# Altium integrated library passive-res-th.IntLib: 25 symbols
Pins are listed as number, name and electrical type; pins without a type are passive.

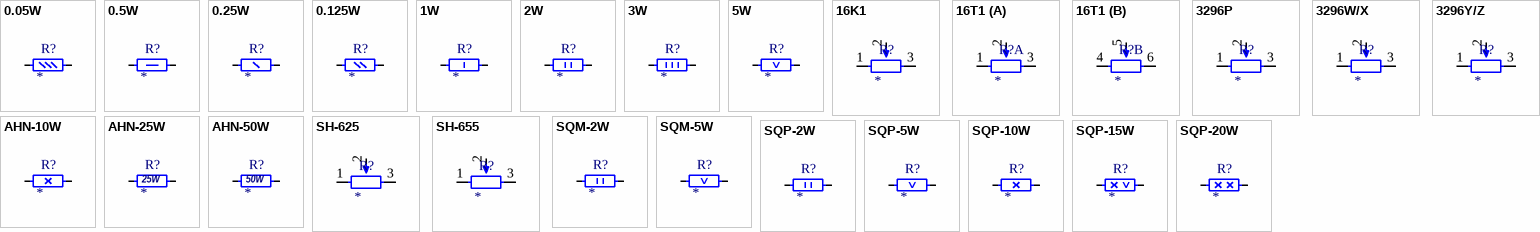
[diagram p0: symbols 0.05W to SQP-20W]

## 0.05W
designator R?
Axial resistor 1/16W; RevisionDate: 11-01-2018; Name: *; Package: *; Value: *
footprint RES-KNP-0.0625W (Footprint not found)
pins: 1, 2

## 0.5W
designator R?
Axial resistor 1/2W; RevisionDate: 11-01-2018; Name: *; Package: *; Value: *
footprint RES-KNP-0.5W (QFN, 4-Leads, Body 7,50x5,00mm, Pitch 6,00mm/2,54mm, IPC Medium Density)
pins: 1, 2

## 0.25W
designator R?
Axial resistor 1/4W; RevisionDate: 11-01-2018; Name: *; Package: *; Value: *
footprint RES-KNP-0.25W (QFN, 4-Leads, Body 7,50x5,00mm, Pitch 6,00mm/2,54mm, IPC Medium Density)
pins: 1, 2

## 0.125W
designator R?
Axial resistor 1/8W; RevisionDate: 11-01-2018; Name: *; Package: *; Value: *
footprint RES-KNP-0.125W (QFN, 4-Leads, Body 7,50x5,00mm, Pitch 6,00mm/2,54mm, IPC Medium Density)
pins: 1, 2

## 1W
designator R?
Axial resistor 1W; RevisionDate: 11-01-2018; Name: *; Package: *; Value: *
footprint RES-KNP-1W (QFN, 4-Leads, Body 7,50x5,00mm, Pitch 6,00mm/2,54mm, IPC Medium Density)
pins: 1, 2

## 2W
designator R?
Axial resistor 2W; RevisionDate: 11-01-2018; Name: *; Package: *; Value: *
footprint RES-KNP-2W (QFN, 4-Leads, Body 7,50x5,00mm, Pitch 6,00mm/2,54mm, IPC Medium Density)
pins: 1, 2

## 3W
designator R?
Axial resistor 3W; RevisionDate: 11-01-2018; Name: *; Package: *; Value: *
footprint RES-KNP-3W (QFN, 4-Leads, Body 7,50x5,00mm, Pitch 6,00mm/2,54mm, IPC Medium Density)
pins: 1, 2

## 5W
designator R?
Axial resistor 5W; RevisionDate: 11-01-2018; Name: *; Package: *; Value: *
footprint RES-KNP-5/6W (QFN, 4-Leads, Body 7,50x5,00mm, Pitch 6,00mm/2,54mm, IPC Medium Density)
pins: 1, 2

## 16K1
designator R?
Trimmer 16K1; RevisionDate: 11-01-2018; Name: 16K1; Value: *
footprint POT-16K1
pins: 1, 2, 3

## 16T1
designator R?
Trimmer 16T1; RevisionDate: 11-01-2018; Name: 16T1; Value: *
footprint POT-16T1
part A pins: 1, 2, 3
part B pins: 4, 5, 6

## 3296P
designator R?
Precision trimmer 3296P; Name: Bourns-3296P; RevisionDate: 11-01-2018; Value: *
footprint POT-3296P
pins: 1, 2, 3

## 3296W/X
designator R?
Precision trimmer 3296W/X; Name: Bourns-3296W; RevisionDate: 11-01-2018; Value: *
footprint POT-3296WX
pins: 1, 2, 3

## 3296Y/Z
designator R?
Precision trimmer 3296Y/Z; Name: Bourns-3296Y; RevisionDate: 11-01-2018; Value: *
footprint POT-3296YZ
pins: 1, 2, 3

## AHN-10W
designator R?
AHN resistor 10W; RevisionDate: 11-01-2018; Name: *; Package: *; Value: *
footprint RES-AHN-10 (QFN, 4-Leads, Body 7,50x5,00mm, Pitch 6,00mm/2,54mm, IPC Medium Density)
pins: 1, 2

## AHN-25W
designator R?
AHN resistor 25W; RevisionDate: 11-01-2018; Name: *; Package: *; Value: *
footprint RES-AHN-25 (QFN, 4-Leads, Body 7,50x5,00mm, Pitch 6,00mm/2,54mm, IPC Medium Density)
pins: 1, 2
text: 25W

## AHN-50W
designator R?
AHN resistor 50W; RevisionDate: 11-01-2018; Name: *; Package: *; Value: *
footprint RES-AHN-50 (QFN, 4-Leads, Body 7,50x5,00mm, Pitch 6,00mm/2,54mm, IPC Medium Density)
pins: 1, 2
text: 50W

## SH-625
designator R?
Trimmer SH-625MC; RevisionDate: 11-01-2018; Name: SH-625MC; Value: *
footprint POT-SH625
pins: 1, 2, 3

## SH-655
designator R?
Trimmer SH-655MCL; RevisionDate: 11-01-2018; Name: SH-655MCL; Value: *
footprint POT-SH655
pins: 1, 2, 3

## SQM-2W
designator R?
SQM resistor 2W; RevisionDate: 11-01-2018; Name: *; Package: *; Value: *
footprint RES-SQM-2 (QFN, 4-Leads, Body 7,50x5,00mm, Pitch 6,00mm/2,54mm, IPC Medium Density)
pins: 1, 2

## SQM-5W
designator R?
SQM resistor 5W; RevisionDate: 11-01-2018; Name: *; Package: *; Value: *
footprint RES-SQM-5 (QFN, 4-Leads, Body 7,50x5,00mm, Pitch 6,00mm/2,54mm, IPC Medium Density)
pins: 1, 2

## SQP-2W
designator R?
SQP resistor 2W; RevisionDate: 11-01-2018; Name: *; Package: *; Value: *
footprint RES-SQP-2 (QFN, 4-Leads, Body 7,50x5,00mm, Pitch 6,00mm/2,54mm, IPC Medium Density)
pins: 1, 2

## SQP-5W
designator R?
SQP resistor 5W; RevisionDate: 11-01-2018; Name: *; Package: *; Value: *
footprint RES-SQP-5 (QFN, 4-Leads, Body 7,50x5,00mm, Pitch 6,00mm/2,54mm, IPC Medium Density)
pins: 1, 2

## SQP-10W
designator R?
SQP resistor 10W; RevisionDate: 11-01-2018; Name: *; Package: *; Value: *
footprint RES-SQP-10 (QFN, 4-Leads, Body 7,50x5,00mm, Pitch 6,00mm/2,54mm, IPC Medium Density)
pins: 1, 2

## SQP-15W
designator R?
SQP resistor 15W; RevisionDate: 11-01-2018; Name: *; Package: *; Value: *
footprint RES-SQP-15 (QFN, 4-Leads, Body 7,50x5,00mm, Pitch 6,00mm/2,54mm, IPC Medium Density)
pins: 1, 2

## SQP-20W
designator R?
SQP resistor 20W; RevisionDate: 11-01-2018; Name: *; Package: *; Value: *
footprint RES-SQP-20 (QFN, 4-Leads, Body 7,50x5,00mm, Pitch 6,00mm/2,54mm, IPC Medium Density)
pins: 1, 2